# EAGLE library part M24128-BFMB6TG (library ST Microelectronics)
128 Kbit serial I²C bus EEPROM
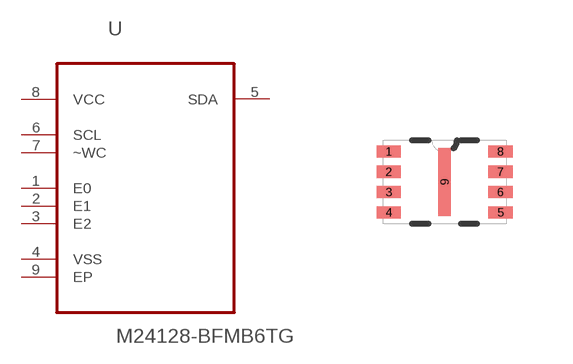
[diagram p137: symbol with the pads of DFN200X300X60-9N; footprint DFN200X300X60-9N]

Designator prefix U

## M24128-BFMB6TG (MPN: M24128-BFMB6TG; OC_FARNELL: 1671309; OC_NEWARK: 19P1133; PACKAGE: DFN-8; SUPPLIER: STMicroelectronics)  [DFN200X300X60-9N]
1  E0  in
2  E1  in
3  E2  in
4  VSS  pwr
5  SDA
6  SCL  in
7  ~WC  in
8  VCC  pwr
9  EP  pas

## Footprint DFN200X300X60-9N (pad centres in mm)
smd 0.61 x 0.305: 1 -1.397,0.762; 2 -1.397,0.254; 3 -1.397,-0.254; 4 -1.397,-0.762; 5 1.397,-0.762; 6 1.397,-0.254; 7 1.397,0.254; 8 1.397,0.762
smd 0.305 x 1.702: 9 0,0